# Altium schematic symbol library 灯.SchLib: 4 symbols
Pins are listed as number, name and electrical type; pins without a type are passive.

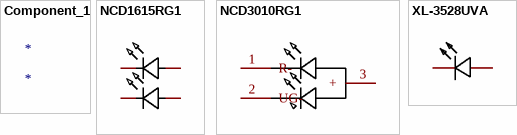
[diagram p0: symbols Component_1 to XL-3528UVA]

## Component_1
designator *

## NCD1615RG1
designator LED??  (value not drawn)
Manufacturer: 国星光电; Add into BOM: yes; Emitted Color: 橙红,翠绿; Dominant Wavelength: 625nm；525nm; Forward Current: 20mA; Power Dissipation: 72mW；52mW; Viewing Angle: 130°; Name: NCD1615RG1; Symbol: NCD1615RG1; Device: NCD1615RG1; LCSC Part Name: 红灯,翠绿 正贴 1615  双色LED; Supplier Part: C2917181; Manufacturer Part: NCD1615RG1; Supplier Footprint: 0606; JLCPCB Part Class: Extended Part; Datasheet: https://atta.szlcsc.com/upload/public/pdf/source/20211124/E2F3DD35E9AE2C38D361CFFAAFF6A77F.pdf; Supplier: LCSC; Convert to PCB: yes; Diode Configuration: -; Lens Color: -; Peak Wavelength: -; Color Temperature: -; Mounting Sytle: -; Operating Temperature: -30℃~+85℃
footprint LED-SMD_4P-L1.6-W1.5-TL-1
3D model LED-SMD_4P-L1.6-W1.5-TL-1
pins: 1 R-, 2 +R, 3 UG-, 4 +UG

## NCD3010RG1
designator LED??  (value not drawn)
Manufacturer: 国星光电; Add into BOM: yes; Emitted Color: 橙红,翠绿; Diode Configuration: 共阳极; Dominant Wavelength: 625nm；530nm; Forward Current: 20mA; Power Dissipation: 90mW；65mW; Viewing Angle: 120°; Mounting Sytle: 侧贴; Name: NCD3010RG1; Symbol: NCD3010RG1; Device: NCD3010RG1; LCSC Part Name: 红灯,翠绿 侧贴 3010侧发光   双色LED; Supplier Part: C2917189; Manufacturer Part: NCD3010RG1; Supplier Footprint: SMD,2x3mm; JLCPCB Part Class: Extended Part; Datasheet: https://atta.szlcsc.com/upload/public/pdf/source/20211124/9E5EB6D4AC668CB3328B7E2743E65760.pdf; Supplier: LCSC; Convert to PCB: yes; Lens Color: -; Peak Wavelength: -; Color Temperature: -; Operating Temperature: -30℃~+85℃
footprint LED-SMD_NCD3010RG1
3D model LED-SMD_NCD3010RG1
pins: 1 R-, 2 UG-, 3 +

## XL-3528UVA
designator U??  (value not drawn)
Manufacturer: XINGLIGHT(成兴光); Add into BOM: yes; Peak Wavelength: 395nm~405nm; Viewing Angle: 120°; Forward Voltage: 3V~3.4V; Forward Current: 40mA; Power Dissipation: 60mW; Name: XL-3528UVA; Symbol: XL-3528UVA; Device: XL-3528UVA; LCSC Part Name: 3528紫色贴片LED灯珠; Supplier Part: C2843805; Manufacturer Part: XL-3528UVA; Supplier Footprint: 3528(mm); JLCPCB Part Class: Extended Part; Datasheet: https://atta.szlcsc.com/upload/public/pdf/source/20221102/EC58B4A8960EA2F8D6A7E8F0EE39612F.pdf; Supplier: LCSC; Convert to PCB: yes; Operating Temperature: -30℃~80℃
footprint LED-SMD_L3.0-W2.7-LS3.5-RD_PURPLE
3D model LED-SMD_L3.0-W2.7-LS3.5-RD_PURPLE
footprint LED0805-R-RD
footprint LED0603-RD_GREEN
footprint LED0603-RD_GREEN
footprint LED0402-R-RD (&#21457;&#20809;&#20108;&#26497;&#31649;; 0402; LED0402)
pins: 1, 2